# Altium footprint library 底盘.PcbLib: 33 footprints (part 1 of 3)
Each footprint in its own frame and in the unit in brackets; x right, y up, seen from the top. Pads: shape width x height; smd on the part's side, far side on the other; paste and mask are expansions set on the pad; w line width, h text height; cw(c..) or ccw(c..) is an arc to the next point about the centre after c.
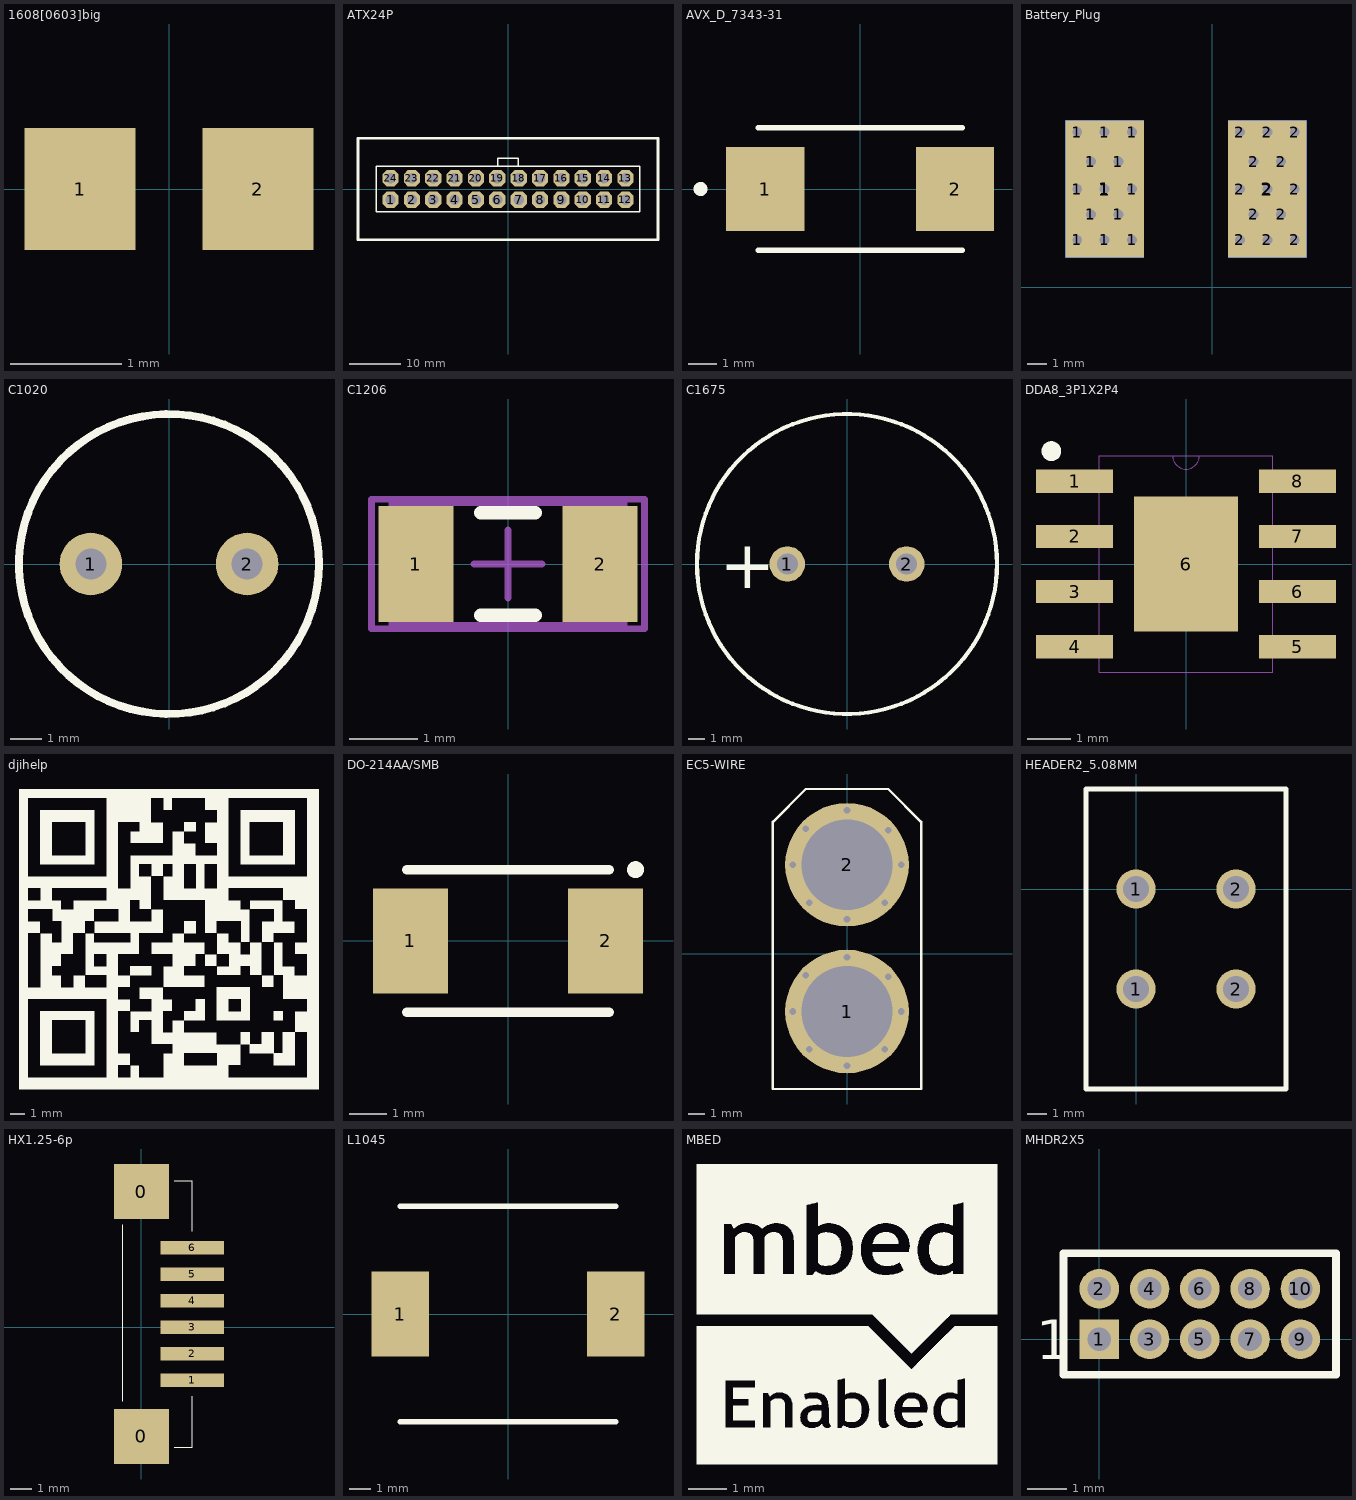
[diagram p0: the footprints below, top view; thin cyan lines are the x and y axes]

## 1608[0603]big [mm] "Chip Capacitor, Body 1.6x0.8mm, IPC High Density"
height 1.3
pads (2):
  rect 1x1.1 smd: 1(-0.8,0) 2(0.8,0)
3D body: height 1.3, standoff 0, extent -0.875,-0.475 0.875,0.475

## ATX24P [mm]
pads (24):
  oct 3.2x3.2 hole 2: 1(-23.1,-2.1) 2(-18.9,-2.1) 3(-14.7,-2.1) 4(-10.5,-2.1) 5(-6.3,-2.1) 6(-2.1,-2.1) 7(2.1,-2.1) 8(6.3,-2.1) 9(10.5,-2.1) 10(14.7,-2.1) 11(18.9,-2.1) 12(23.1,-2.1) 13(23.1,2.1) 14(18.9,2.1) 15(14.7,2.1) 16(10.5,2.1) 17(6.3,2.1) 18(2.1,2.1) 19(-2.1,2.1) 20(-6.3,2.1) 21(-10.5,2.1) 22(-14.7,2.1) 23(-18.9,2.1) 24(-23.1,2.1)
Top Overlay:
  lines w0.25: -2,4.5 -2,6 2,6 2,4.5
  lines w0.254: -25.9,-4.5 -25.9,-2.7 -25.9,0.3 -25.9,4.5 -23.9,4.5 18.1,4.5 25.3,4.5 25.9,4.5 25.9,-4.5 24.4,-4.5 0.8,-4.5 -25.9,-4.5
  lines w0.5: -29.5,-10 -29.5,10 29.5,10 29.5,-10 -29.5,-10

## AVX_D_7343-31 [mm]
height 1.3
pads (2):
  rect 2.8x3 smd: 1(-3.4,0) 2(3.4,0)
Top Overlay:
  circle w0.25: c-5.715,0 r0.127
  lines w0.2: -3.65,-2.2 3.65,-2.2 ; -3.65,2.2 3.65,2.2

## Battery_Plug [mm]
height 1.3
pads (30):
  round 1 hole 0.5: 1(-6.9,5) 1(-6.9,2.4) 1(-6.9,7.9) 1(-6.2,3.7) 1(-6.2,6.4) 1(-5.5,5) 1(-5.5,2.4) 1(-5.5,7.9) 1(-4.8,3.7) 1(-4.8,6.4) 1(-4.1,5) 1(-4.1,2.4) 1(-4.1,7.9) 2(1.4,5) 2(1.4,2.4) 2(1.4,7.9) 2(2.1,3.7) 2(2.1,6.4) 2(2.8,5) 2(2.8,2.4) 2(2.8,7.9) 2(3.5,3.7) 2(3.5,6.4) 2(4.2,5) 2(4.2,2.4) 2(4.2,7.9)
  rect 4x7 smd: 1(-5.5,5) 2(2.8,5)
  rect 4x7 smd far side: 1(-5.5,5) 2(2.8,5)

## C1020 [mm]
height 1.3
pads (2):
  round 2 hole 1: 1(-2.5,0) 2(2.5,0)
Top Overlay:
  circle w0.254: c0,0 r4.8

## C1206 [mm] "Chip Capacitor, Body 3.2x1.6mm, IPC High Density"
height 1.3
pads (2):
  rect 1.1x1.7 smd: 1(-1.35,0) 2(1.35,0)
Top Overlay:
  lines w0.2: -0.4,-0.75 0.4,-0.75 ; -0.4,0.75 0.4,0.75
Mechanical 13:
  lines w0.1: -1.7,-0.9 1.7,-0.9 1.7,0.9 -1.7,0.9 -1.7,-0.9
Mechanical 15:
  lines w0.1: -0.5,0 0.5,0 ; 0,-0.5 0,0.5 ; -2,-0.95 2,-0.95 2,0.95 -2,0.95 -2,-0.95
3D body: height 1.3, standoff 0, extent -1.7,-0.9 1.7,0.9

## C1675 [mm]
pads (2):
  round 2.2 hole 1.3: 1(-3.7,0) 2(3.7,0)
Top Overlay:
  circle w0.254: c0,0 r9.3
  text "+" at -7.9,-1.5 h3

## DDA8_3P1X2P4 [mil]
height 51.18
pads (9):
  rect 70x21 smd: 1(-101,75) 2(-101,25) 3(-101,-25) 4(-101,-75) 5(101,-75) 6(101,-25) 7(101,25) 8(101,75)
  rect 94.49x122.05 smd paste-60.52: 6(0,0)
Top Overlay:
  circle w10: c-122.05,102.36 r3.94
Top Paste:
  region: 43.31,57.09 -43.31,57.09 -43.31,3.94 43.31,3.94
  region: 43.31,-3.94 -43.31,-3.94 -43.31,-57.09 43.31,-57.09
Mechanical 1:
  lines w0: -12,98 ccw(c0,98) 12,98 ; -122,-84.5 -122,-65.5 -78.5,-65.5 -78.5,-84.5 -122,-84.5 ; -122,-34.5 -122,-15.5 -78.5,-15.5 -78.5,-34.5 -122,-34.5 ; -122,15.5 -122,34.5 -78.5,34.5 -78.5,15.5 -122,15.5 ; -122,65.5 -122,84.5 -78.5,84.5 -78.5,65.5 -122,65.5 ; -78.5,-98 78.5,-98 78.5,98 -78.5,98 -78.5,-98 ; 78.5,-84.5 78.5,-65.5 122,-65.5 122,-84.5 78.5,-84.5 ; 78.5,-34.5 78.5,-15.5 122,-15.5 122,-34.5 78.5,-34.5 ; 78.5,15.5 78.5,34.5 122,34.5 122,15.5 78.5,15.5 ; 78.5,65.5 78.5,84.5 122,84.5 122,65.5 78.5,65.5

## djihelp [mm]
height 1.3
Top Overlay:
  drawing of 11 lines, arcs and shapes, not listed

## DO-214AA/SMB [mm]
height 1.3
pads (2):
  rect 2x2.8 smd: 1(-2.6,0) 2(2.6,0)
Top Overlay:
  circle w0.254: c3.4,1.9 r0.1
  lines w0.254: -2.7,-1.9 2.7,-1.9 ; -2.7,1.9 2.7,1.9

## EC5-WIRE [mm]
pads (2):
  round 7.5 hole 5.5: 1(0,-3.5) 2(0,5.4)
via -3.3,-3.5 diameter 0.4 hole 0.4
via 3.3,-3.5 diameter 0.4 hole 0.4
via 0,-6.8 diameter 0.4 hole 0.4
via 0,-0.2 diameter 0.4 hole 0.4
via -2.5,-1.3 diameter 0.4 hole 0.4
via 2.5,-1.4 diameter 0.4 hole 0.4
via -2.3,-5.8 diameter 0.4 hole 0.4
via 2.3,-5.8 diameter 0.4 hole 0.4
via 2.3,3.1 diameter 0.4 hole 0.4
via -2.3,3.1 diameter 0.4 hole 0.4
via 2.5,7.5 diameter 0.4 hole 0.4
via -2.5,7.6 diameter 0.4 hole 0.4
via 0,8.7 diameter 0.4 hole 0.4
via 0,2.1 diameter 0.4 hole 0.4
via 3.3,5.4 diameter 0.4 hole 0.4
via -3.3,5.4 diameter 0.4 hole 0.4
Top Overlay:
  lines w0.15: -4.5,-8.2 4.5,-8.2 4.5,0.5 4.5,8 2.5,10 -2.5,10 -4.5,8 -4.5,0.5 -4.5,-4.5 -4.5,-8.2

## HEADER2_5.08MM [mm]
pads (4):
  round 2 hole 1.3: 1(0,-5.08) 1(0,0) 2(5.08,-5.08) 2(5.08,0)
Top Overlay:
  lines w0.254: -2.54,-10.16 7.62,-10.16 7.62,5.08 -2.54,5.08 -2.54,-10.16

## HX1.25-6p [mm]
height 1.3
pads (8):
  rect 2.6x2.6 smd: 0(0.013,-5.15) 0(0.013,6.4)
  rect 3x0.65 smd: 1(2.413,-2.5) 2(2.413,-1.25) 3(2.413,0) 4(2.413,1.25) 5(2.413,2.5) 6(2.413,3.75)
Top Overlay:
  lines w0.05: -0.889,4.826 -0.887,-3.5 ; 1.563,-5.65 2.413,-5.65 2.413,-3.25 ; 1.563,6.92 2.413,6.92 2.413,4.52

## L1045 [mm]
height 1.3
pads (2):
  rect 2.7x4 smd: 1(-5.1,0) 2(5.1,0)
Top Overlay:
  lines w0.254: -5.1,-5.1 5.1,-5.1 ; -5.1,5.1 5.1,5.1

## MBED [mm]
Top Overlay:
  drawing of 3679 lines, arcs and shapes, not listed

## MHDR2X5 [mm] "Connector; Header; 5x2 Position"
height 1.3
pads (10):
  rect 1x1 hole 0.6: 1(0,0)
  round 1 hole 0.6: 2(0,1.27) 3(1.27,0) 4(1.27,1.27) 5(2.54,0) 6(2.54,1.27) 7(3.81,0) 8(3.81,1.27) 9(5.08,0) 10(5.08,1.27)
Top Overlay:
  lines w0.2: -0.9,-0.9 -0.9,2.17 5.98,2.17 5.98,-0.9 -0.9,-0.9
  text "1" at -1.6,-0.508 h1